# Altium footprint library Miscellaneous Devices.PcbLib: 215 footprints (part 3 of 14)
Each footprint in its own frame and in the unit in brackets; x right, y up, seen from the top. Pads: shape width x height; smd on the part's side, far side on the other; paste and mask are expansions set on the pad; w line width, h text height; cw(c..) or ccw(c..) is an arc to the next point about the centre after c.
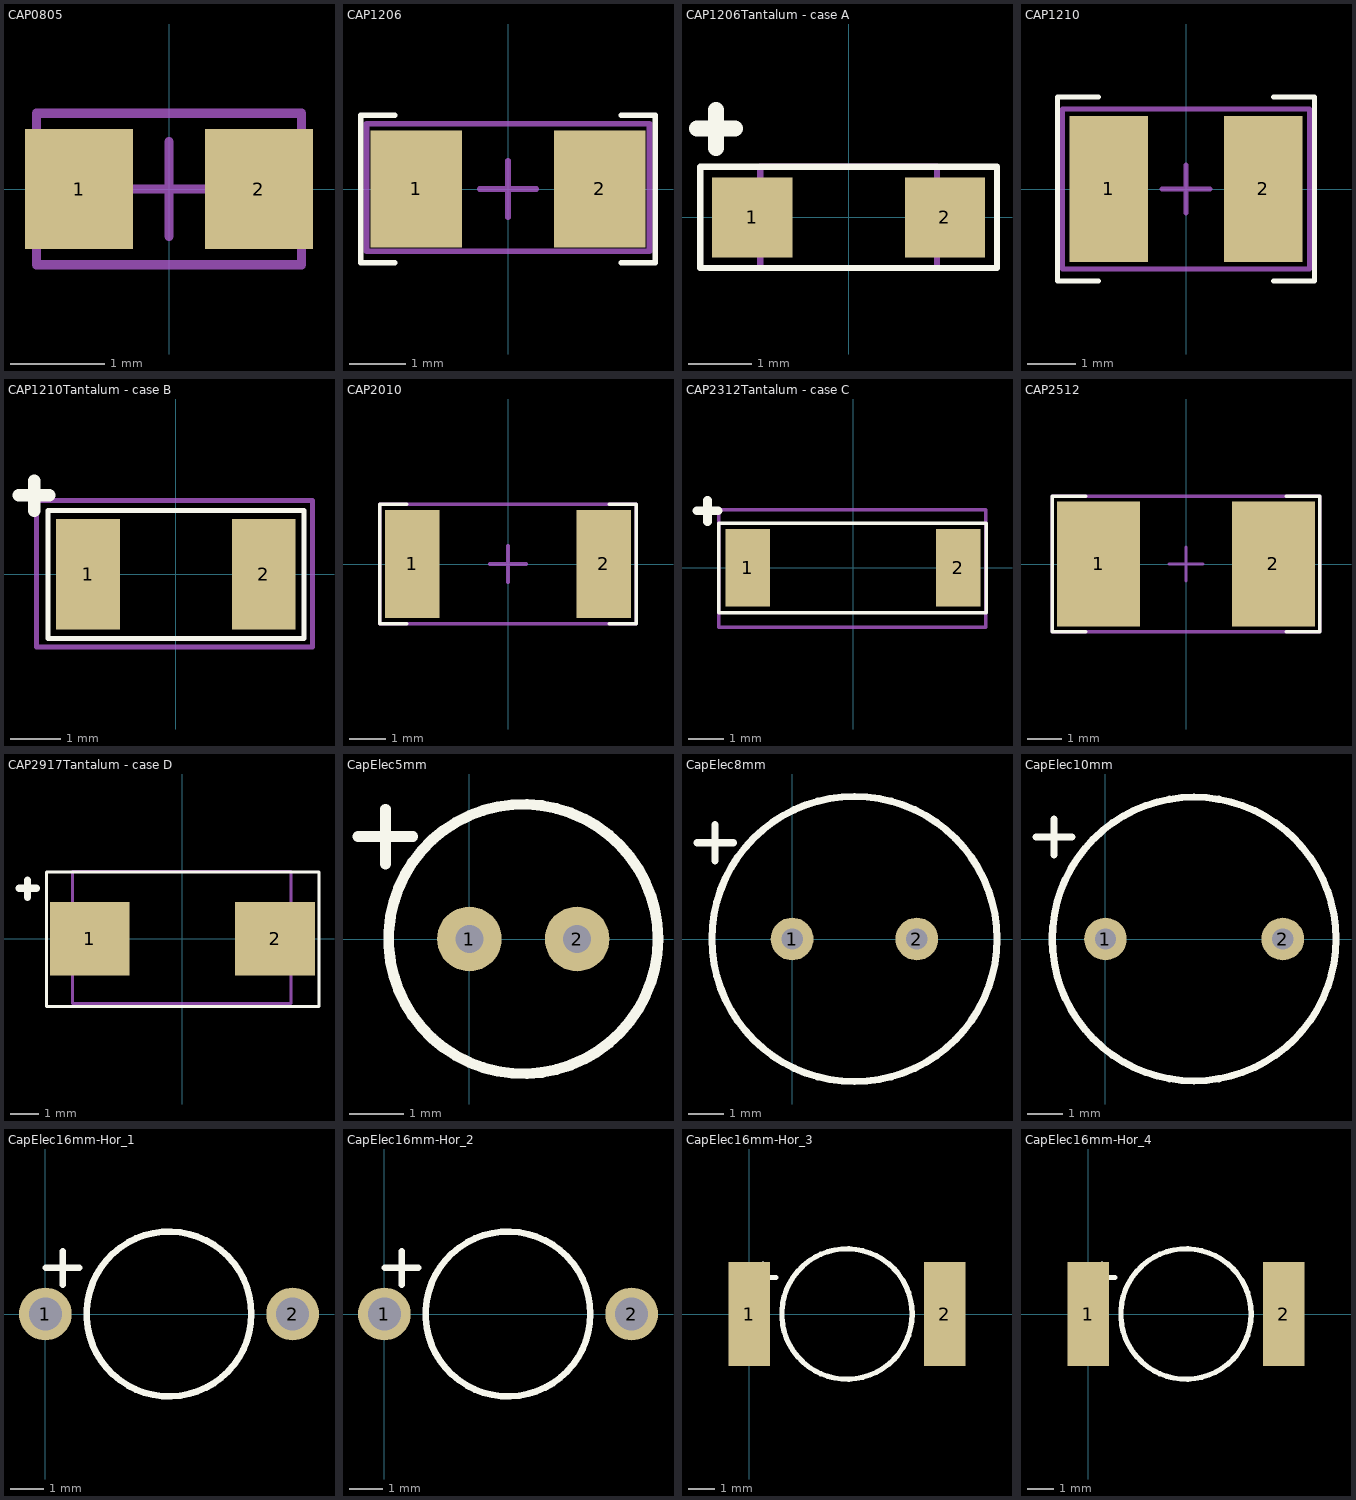
[diagram p2: the footprints below, top view; thin cyan lines are the x and y axes]

## CAP0805 [mm] "Chip Capacitor, Body 2.0x1.3mm, IPC High Density"
height 1.4
pads (2):
  rect 1.14x1.27 smd: 1(-0.95,0) 2(0.95,0)
Mechanical 15:
  lines w0.1: -0.5,0 0.5,0 ; 0,-0.5 0,0.5 ; -1.4,-0.8 -1.4,0.8 1.4,0.8 1.4,-0.8 -1.4,-0.8
3D body "CAP0805.STEP": height 0.6, standoff 0, extent -1,-0.625 1,0.625

## CAP1206 [mm] "Chip Capacitor, Body 3.20x1.6mm"
height 0.55
pads (2):
  rect 1.62x2.06 smd: 1(-1.62,0) 2(1.62,0)
Top Overlay:
  lines w0.1: -2,-1.3 -2.6,-1.3 -2.6,1.3 -2,1.3 ; 2,-1.3 2.6,-1.3 2.6,1.3 2,1.3
Mechanical 15:
  lines w0.1: -0.5,0 0.5,0 ; 0,-0.5 0,0.5 ; -2.5,-1.1 -2.5,1.15 2.5,1.15 2.5,-1.1 -2.5,-1.1
3D body "CAP1206.STEP": height 0.78, standoff 0, extent -1.65,-0.8 1.65,0.8

## CAP1206Tantalum - case A [mm] "Chip Capacitor"
height 1.6
pads (2):
  rect 1.27x1.27 smd: 1(-1.525,0) 2(1.525,0)
Top Overlay:
  lines w0.1: -2.35,-0.8 2.35,-0.8 2.35,0.8 -2.35,0.8 -2.35,-0.8
  lines w0.25: -2.4,1.41 -1.8,1.41 ; -2.1,1.1 -2.1,1.7
Mechanical 15:
  lines w0.1: -1.4,-0.8 -1.4,0.8 1.4,0.8 1.4,-0.8 -1.4,-0.8
3D body "CAP Tantalum SMD Case A.step": height 1.6, standoff 0, extent -1.6,-0.775 1.6,0.825

## CAP1210 [mm] "Chip Capacitor, Body 3.20x2.50mm"
height 0.6
pads (2):
  rect 1.62x3.01 smd: 1(-1.59,0) 2(1.59,0)
Top Overlay:
  lines w0.1: -1.8,-1.9 -2.65,-1.9 -2.65,1.9 -1.8,1.9 ; 1.8,-1.9 2.65,-1.9 2.65,1.9 1.8,1.9
Mechanical 15:
  lines w0.1: -0.5,0 0.5,0 ; 0,-0.5 0,0.5 ; -2.55,-1.65 -2.55,1.65 2.55,1.65 2.55,-1.65 -2.55,-1.65
3D body "CAP1210.STEP": height 0.78, standoff 0, extent -1.65,-1.3 1.65,1.3

## CAP1210Tantalum - case B [mm] "Chip Capacitor"
height 1.6
pads (2):
  rect 1.27x2.2 smd: 1(-1.75,0) 2(1.75,0)
Top Overlay:
  lines w0.1: -2.55,-1.275 -2.55,1.275 2.55,1.275 2.55,-1.275 -2.55,-1.275
  lines w0.25: -3.125,1.575 -2.525,1.575 ; -2.825,1.265 -2.825,1.865
Mechanical 15:
  lines w0.1: -2.775,-1.45 2.725,-1.45 2.725,1.475 -2.775,1.475 -2.775,-1.45
3D body "CAP Tantalum SMD Case B.step": height 1.9, standoff 0, extent -1.75,-1.4 1.75,1.4

## CAP2010 [mm] "Chip Capacitor, Body 5.0x2.5mm"
height 0.6
pads (2):
  rect 1.5x3 smd: 1(-2.65,0) 2(2.65,0)
Top Overlay:
  lines w0.1: -2.8,-1.65 -3.55,-1.65 -3.55,1.65 -2.8,1.65 ; 2.8,-1.65 3.55,-1.65 3.55,1.65 2.8,1.65
Mechanical 15:
  lines w0.1: -0.5,0 0.5,0 ; 0,-0.5 0,0.5 ; -3.55,-1.65 -3.55,1.65 3.55,1.65 3.55,-1.65 -3.55,-1.65

## CAP2312Tantalum - case C [mm] "Chip Capacitor"
height 1.6
pads (2):
  rect 1.27x2.2 smd: 1(-3,0) 2(3,0)
Top Overlay:
  lines w0.1: -3.825,-1.275 3.8,-1.275 3.8,1.275 -3.825,1.275 -3.825,-1.275
  lines w0.25: -4.45,1.625 -3.85,1.625 ; -4.15,1.315 -4.15,1.915
Mechanical 15:
  lines w0.1: -3.825,-1.7 -3.825,1.65 3.775,1.65 3.775,-1.7 -3.825,-1.7
3D body "CAP Tantalum SMD Case C.STEP": height -0.43, standoff -3.12, extent -3.043,-1.625 3.143,1.58

## CAP2512 [mm] "Chip Capacitor, Body 6.4x3.1mm"
height 0.6
pads (2):
  rect 2.45x3.7 smd: 1(-2.575,0) 2(2.575,0)
Top Overlay:
  lines w0.1: -2.95,-2 -3.95,-2 -3.95,2 -2.95,2 ; 2.95,-2 3.95,-2 3.95,2 2.95,2
Mechanical 15:
  lines w0.1: -0.5,0 0.5,0 ; 0,-0.5 0,0.5 ; -3.95,-2 -3.95,2 3.95,2 3.95,-2 -3.95,-2

## CAP2917Tantalum - case D [mm] "Chip Capacitor"
height 1.6
pads (2):
  rect 2.77x2.55 smd: 1(-3.22,0) 2(3.22,0)
Top Overlay:
  lines w0.1: -4.724,-2.362 -4.724,2.311 4.75,2.311 4.75,-2.362 -4.724,-2.362
  lines w0.25: -5.685,1.753 -5.085,1.753 ; -5.385,1.443 -5.385,2.043
Mechanical 15:
  lines w0.1: -3.825,-2.261 3.775,-2.261 3.775,2.337 -3.825,2.337 -3.825,-2.261
3D body "CAP Tantalum SMD Case D.step": height 3.01, standoff 0, extent -3.7,-2.25 3.7,2.2

## CapElec5mm [mm] "5mm diam. 63V"
height 11
pads (2):
  round 1.2 hole 0.52: 1(0,0) 2(2,0)
Top Overlay:
  circle w0.2: c1,0 r2.5
  lines w0.2: -2.068,1.9 -1.052,1.9 ; -1.56,1.392 -1.56,2.408
3D body: height 2, standoff 0, extent -0.248,-0.249 0.25,0.25
3D body: height 2, standoff 0, extent 1.752,-0.249 2.25,0.25
3D body "CAP electrolitico 5x11mm.STEP": height 11, standoff -2.5, extent -1.5,-2.4 3.5,2.6

## CapElec8mm [mm] "8mm diam. 63V"
height 11.5
pads (2):
  round 1.2 hole 0.6: 1(0,0) 2(3.5,0)
Top Overlay:
  circle w0.2: c1.75,0 r4
  lines w0.2: -2.668,2.7 -1.652,2.7 ; -2.16,2.192 -2.16,3.208
3D body "CAP electrolitico 8mm.STEP": height 11.5, standoff -2.5, extent -2.033,-3.833 5.634,3.833

## CapElec10mm [mm] "10mm diam."
height 16
pads (2):
  round 1.2 hole 0.6: 1(0,0) 2(5,0)
Top Overlay:
  circle w0.2: c2.5,0 r4
  lines w0.2: -1.958,2.875 -0.942,2.875 ; -1.45,2.367 -1.45,3.383
3D body "CAP electrolitico 10x16mm.STEP": height 16, standoff -2.5, extent -2.525,-5.025 7.475,4.975

## CapElec16mm-Hor_1 [mm]
pads (2):
  round 1.6 hole 1: 1(0,0) 2(7.5,0)
Top Overlay:
  circle w0.2: c3.75,0 r2.5
  lines w0.2: 0.017,1.4 1.033,1.4 ; 0.525,0.892 0.525,1.908
3D body "CAP electrolitico 16x25mm - horizontal.STEP": height 16.51, standoff -3, extent -4.265,-0.4 11.765,26.5

## CapElec16mm-Hor_2 [mm]
pads (2):
  round 1.6 hole 1: 1(0,0) 2(7.5,0)
Top Overlay:
  circle w0.2: c3.75,0 r2.5
  lines w0.2: 0.017,1.4 1.033,1.4 ; 0.525,0.892 0.525,1.908
3D body "CAP electrolitico 16x25mm - horizontal.STEP": height 16.51, standoff -3, extent -4.215,-26.475 11.815,0.425

## CapElec16mm-Hor_3 [mm]
pads (2):
  rect 1.6x4 smd: 1(0,0) 2(7.5,0)
Top Overlay:
  circle w0.2: c3.75,0 r2.5
  lines w0.2: 0.017,1.4 1.033,1.4 ; 0.525,0.892 0.525,1.908
3D body "CAP electrolitico 16x25mm - horizontal10grados.STEP": height 24.23, standoff -0.31, extent -4.117,-4.797 11.913,28.368

## CapElec16mm-Hor_4 [mm]
pads (2):
  rect 1.6x4 smd: 1(0,0) 2(7.5,0)
Top Overlay:
  circle w0.2: c3.75,0 r2.5
  lines w0.2: 0.017,1.4 1.033,1.4 ; 0.525,0.892 0.525,1.908
3D body "CAP electrolitico 16x25mm - horizontal20grados.STEP": height 29.53, standoff -0.76, extent -4.459,-26.387 11.571,8.936